# Altium schematic symbol library Resistor.SchLib: 581 symbols (part 3 of 3)
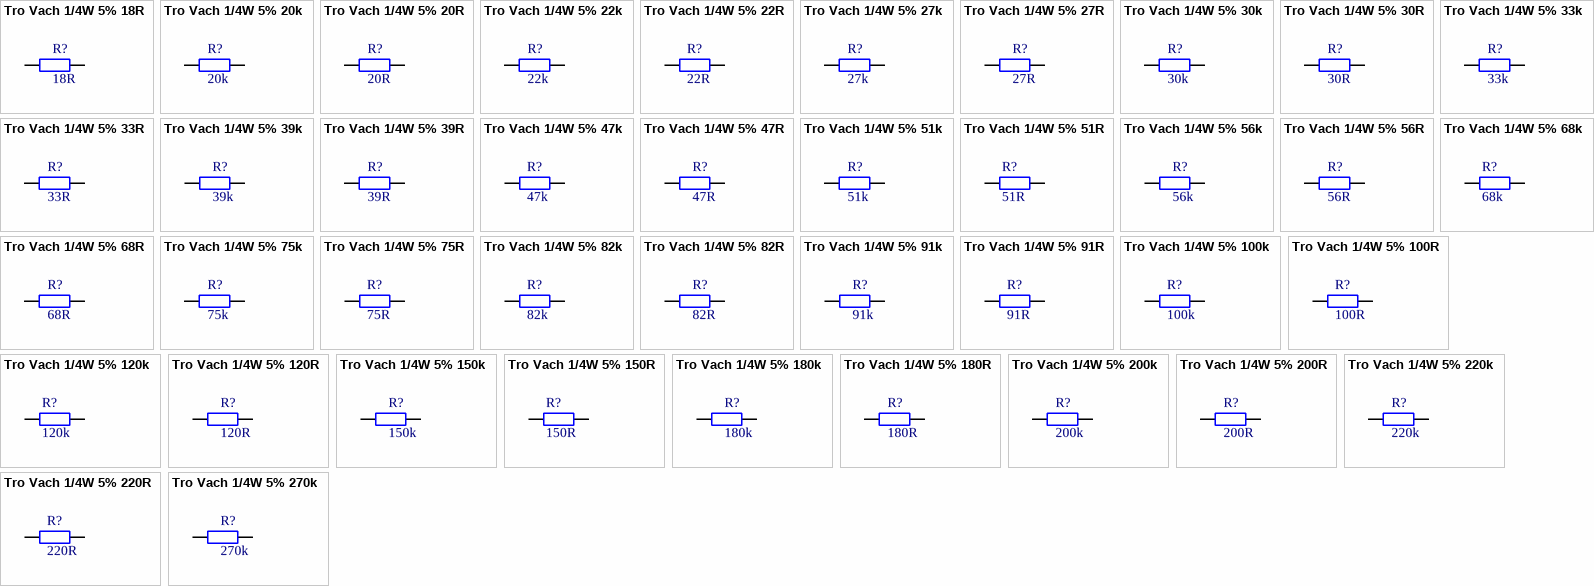
[diagram p16: symbols Tro Vach 1/4W 5% 18R to Tro Vach 1/4W 5% 270k]

## Tro Vach 1/4W 5% 56k
designator R?, comment 56k
Cắm; Don_Vi: Con; So_Chan: 2; Ten_Linh_Kien: Trở Vạch 1/4w 5% 56k; Ma_Hang: MH007329; Chung_Loai: Cắm; Kieu_Chan: *
footprint tro vach 1/4w
pins: 1, 2

## Tro Vach 1/4W 5% 56R
designator R?, comment 56R
Cắm; Don_Vi: Con; So_Chan: 2; Ten_Linh_Kien: Trở Vạch 1/4w 5% 56R; Ma_Hang: MH007404; Chung_Loai: Cắm; Kieu_Chan: *
footprint tro vach 1/4w
pins: 1, 2

## Tro Vach 1/4W 5% 68k
designator R?, comment 68k
Cắm; Don_Vi: Con; So_Chan: 2; Ten_Linh_Kien: Trở Vạch 1/4w 5% 68k; Ma_Hang: MH007332; Kieu_Chan: *; Chung_Loai: Cắm
footprint tro vach 1/4w
pins: 1, 2

## Tro Vach 1/4W 5% 68R
designator R?, comment 68R
Căm; Chung_Loai: Cắm; Don_Vi: Con; So_Chan: 2; Ten_Linh_Kien: Trở Vạch 1/4w 5% 68R; Ma_Hang: MH007333; Kieu_Chan: *
footprint tro vach 1/4w
pins: 1, 2

## Tro Vach 1/4W 5% 75k
designator R?, comment 75k
Cắm; Don_Vi: Con; So_Chan: 2; Ten_Linh_Kien: Trở Vạch 1/4W 5% 75k; Ma_Hang: MH008788; Chung_Loai: Cắm; Kieu_Chan: *
footprint tro vach 1/4w
pins: 1, 2

## Tro Vach 1/4W 5% 75R
designator R?, comment 75R
Cắm; Don_Vi: Con; So_Chan: 2; Ten_Linh_Kien: Trở Vạch 1/4w 5% 75R; Ma_Hang: MH007339; Chung_Loai: Cắm; Kieu_Chan: *
footprint tro vach 1/4w
pins: 1, 2

## Tro Vach 1/4W 5% 82k
designator R?, comment 82k
Cắm; Don_Vi: Con; So_Chan: 2; Ten_Linh_Kien: Trở Vạch 1/4w 5% 82k; Ma_Hang: MH007408; Chung_Loai: Cắm; Kieu_Chan: *
footprint tro vach 1/4w
pins: 1, 2

## Tro Vach 1/4W 5% 82R
designator R?, comment 82R
Cắm; Don_Vi: Con; So_Chan: 2; Ten_Linh_Kien: Trở Vạch 1/4w 5% 82R; Ma_Hang: MH007344; Chung_Loai: Cắm; Kieu_Chan: *
footprint tro vach 1/4w
pins: 1, 2

## Tro Vach 1/4W 5% 91k
designator R?, comment 91k
Cắm; Don_Vi: Con; So_Chan: 2; Ten_Linh_Kien: Trở Vạch 1/4w 5% 91k; Ma_Hang: MH007346; Chung_Loai: Cắm; Kieu_Chan: *
footprint tro vach 1/4w
pins: 1, 2

## Tro Vach 1/4W 5% 91R
designator R?, comment 91R
Cắm; Ten_Linh_Kien: Trở Vạch 1/4w 5% 91R; Ma_Hang: MH007347; Don_Vi: Con; So_Chan: 2; Chung_Loai: Cắm; Kieu_Chan: *
footprint tro vach 1/4w
pins: 1, 2

## Tro Vach 1/4W 5% 100k
designator R?, comment 100k
Cắm; Don_Vi: Con; So_Chan: 2; Ten_Linh_Kien: Trở Vạch 1/4w 5% 100k; Ma_Hang: MH007352; Chung_Loai: Cắm; Kieu_Chan: *
footprint tro vach 1/4w
pins: 1, 2

## Tro Vach 1/4W 5% 100R
designator R?, comment 100R
Cắm; Don_Vi: Con; So_Chan: 2; Ten_Linh_Kien: Trở Vạch 1/4w 5% 100R; Ma_Hang: MH007353; Chung_Loai: Cắm; Kieu_Chan: *
footprint tro vach 1/4w
pins: 1, 2

## Tro Vach 1/4W 5% 120k
designator R?, comment 120k
Cắm; Don_Vi: Con; So_Chan: 2; Ten_Linh_Kien: Trở Vạch 1/4w 5% 120k; Ma_Hang: MH007387; Chung_Loai: Cắm; Kieu_Chan: *
footprint tro vach 1/4w
pins: 1, 2

## Tro Vach 1/4W 5% 120R
designator R?, comment 120R
Cắm; Don_Vi: Con; So_Chan: 2; Ten_Linh_Kien: Trở Vạch 1/4W 5% 120R; Ma_Hang: MH007388; Chung_Loai: Cắm; Kieu_Chan: *
footprint tro vach 1/4w
pins: 1, 2

## Tro Vach 1/4W 5% 150k
designator R?, comment 150k
Cắm; Don_Vi: Con; So_Chan: 2; Ten_Linh_Kien: Trở Vạch 1/4w 5% 150k; Ma_Hang: MH007286; Chung_Loai: Cắm; Kieu_Chan: *
footprint Tro vach 1/4w
pins: 1, 2

## Tro Vach 1/4W 5% 150R
designator R?, comment 150R
Cắm; Don_Vi: Con; So_Chan: 2; Ten_Linh_Kien: Trở Vạch 1/4w 5% 150R; Ma_Hang: MH007287; Chung_Loai: Cắm; Kieu_Chan: *
footprint tro vach 1/4w
pins: 1, 2

## Tro Vach 1/4W 5% 180k
designator R?, comment 180k
Cắm; Don_Vi: Con; So_Chan: 2; Ten_Linh_Kien: Trở Vạch 1/4w 5% 180k; Ma_Hang: MH007289; Chung_Loai: Cắm; Kieu_Chan: *
footprint tro vach 1/4w
pins: 1, 2

## Tro Vach 1/4W 5% 180R
designator R?, comment 180R
Cắm; Don_Vi: Con; Ten_Linh_Kien: Trở Vạch 1/4w 5% 180R; Ma_Hang: MH007290; So_Chan: 2; Chung_Loai: Cắm; Kieu_Chan: *
footprint tro vach 1/4w
pins: 1, 2

## Tro Vach 1/4W 5% 200k
designator R?, comment 200k
Cắm; Don_Vi: Con; So_Chan: 2; Ten_Linh_Kien: Trở Vạch 1/4w 5% 200k; Ma_Hang: MH007295; Chung_Loai: Cắm; Kieu_Chan: *
footprint tro vach 1/4w
pins: 1, 2

## Tro Vach 1/4W 5% 200R
designator R?, comment 200R
Cắm; Don_Vi: Con; So_Chan: 2; Ten_Linh_Kien: Trở Vạch 1/4w 5% 200R; Ma_Hang: MH007296; Chung_Loai: Cắm; Kieu_Chan: *
footprint tro vach 1/4w
pins: 1, 2

## Tro Vach 1/4W 5% 220k
designator R?, comment 220k
Cắm; Don_Vi: Con; So_Chan: 2; Ma_Hang: MH007299; Ten_Linh_Kien: Trở Vạch 1/4w 5% 220k; Chung_Loai: Cắm; Kieu_Chan: *
footprint tro vach 1/4w
pins: 1, 2

## Tro Vach 1/4W 5% 220R
designator R?, comment 220R
Cắm; Don_Vi: Con; So_Chan: 2; Ten_Linh_Kien: Trở Vạch 1/4w 5% 220R; Ma_Hang: MH007300; Chung_Loai: Cắm; Kieu_Chan: *
footprint tro vach 1/4w
pins: 1, 2

## Tro Vach 1/4W 5% 270k
designator R?, comment 270k
Cắm; Don_Vi: Con; So_Chan: 2; Ten_Linh_Kien: Trở Vạch 1/4w 5% 270K; Ma_Hang: MH007396; Chung_Loai: Cắm; Kieu_Chan: *
footprint tro vach 1/4w
pins: 1, 2

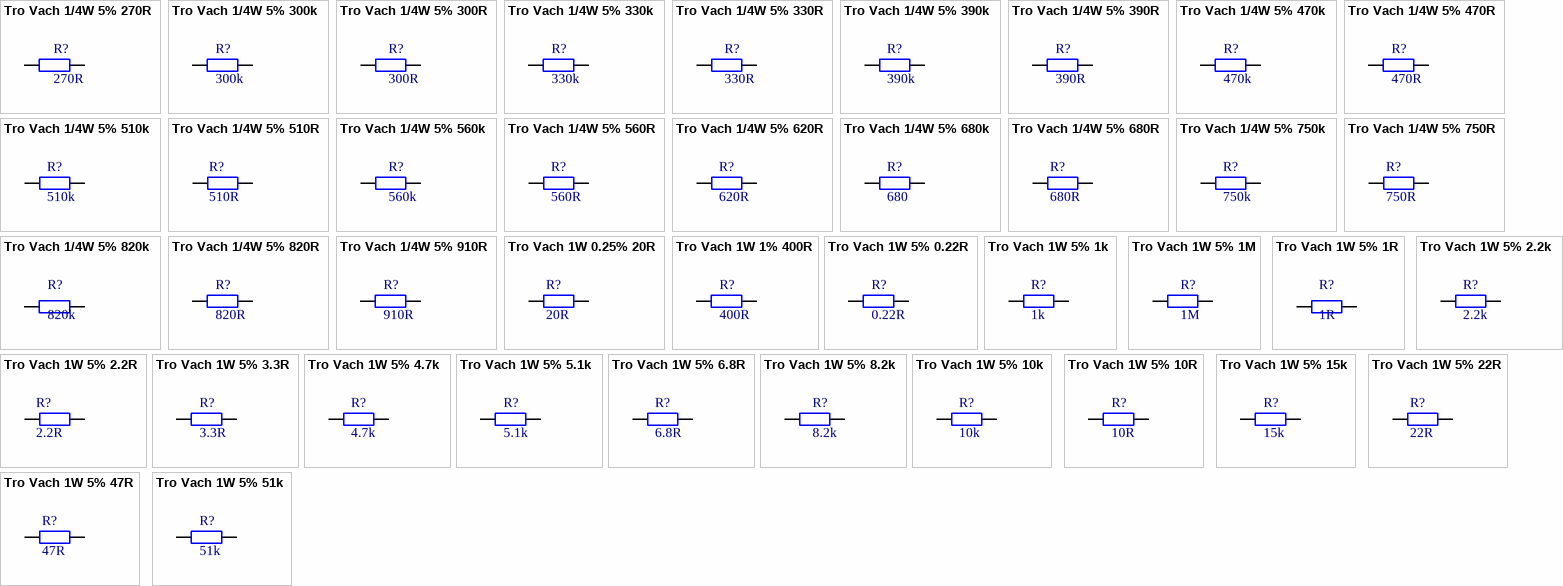
[diagram p12: symbols Tro Vach 1/4W 5% 270R to Tro Vach 1W 5% 51k]

## Tro Vach 1/4W 5% 270R
designator R?, comment 270R
Cắm; So_Chan: 2; Ma_Hang: MH007303; Don_Vi: Con; Ten_Linh_Kien: Trở Vạch 1/4w 5% 270R; Chung_Loai: Cắm; Kieu_Chan: *
footprint tro vach 1/4w
pins: 1, 2

## Tro Vach 1/4W 5% 300k
designator R?, comment 300k
Cắm; Don_Vi: Con; So_Chan: 2; Ten_Linh_Kien: Trở Vạch 1/4w 5% 300k; Ma_Hang: MH007308; Chung_Loai: Cắm; Kieu_Chan: *
footprint tro vach 1/4w
pins: 1, 2

## Tro Vach 1/4W 5% 300R
designator R?, comment 300R
Cắm; So_Chan: 2; Ten_Linh_Kien: Trở Vạch 1/4w 5% 300R; Ma_Hang: MH007309; Don_Vi: Con; Chung_Loai: Cắm; Kieu_Chan: *
footprint tro vach 1/4w
pins: 1, 2

## Tro Vach 1/4W 5% 330k
designator R?, comment 330k
Cắm; Don_Vi: Con; So_Chan: 2; Ten_Linh_Kien: Trở Vạch 1/4w 5% 330k; Ma_Hang: MH007312; Chung_Loai: Cắm; Kieu_Chan: *
footprint tro vach 1/4w
pins: 1, 2

## Tro Vach 1/4W 5% 330R
designator R?, comment 330R
Cắm; Don_Vi: Con; So_Chan: 2; Ten_Linh_Kien: Trở Vạch 1/4W 5% 330R; Ma_Hang: MH007436; Chung_Loai: Cắm; Kieu_Chan: *
footprint tro vach 1/4w
pins: 1, 2

## Tro Vach 1/4W 5% 390k
designator R?, comment 390k
Cắm; Don_Vi: Con; So_Chan: 2; Ten_Linh_Kien: Trở Vạch 1/4w 5% 390k; Ma_Hang: MH007399; Chung_Loai: Cắm; Kieu_Chan: *
footprint tro vach 1/4w
pins: 1, 2

## Tro Vach 1/4W 5% 390R
designator R?, comment 390R
Cắm; Don_Vi: Con; So_Chan: 2; Ten_Linh_Kien: Trở Vạch 1/4W 5% 390R; Ma_Hang: MH007400; Chung_Loai: Cắm; Kieu_Chan: *
footprint tro vach 1/4w
pins: 1, 2

## Tro Vach 1/4W 5% 470k
designator R?, comment 470k
Cắm; Don_Vi: Con; So_Chan: 2; Ten_Linh_Kien: Trở Vạch 1/4w 5% 470k; Ma_Hang: MH007319; Chung_Loai: Cắm; Kieu_Chan: *
footprint tro vach 1/4w
pins: 1, 2

## Tro Vach 1/4W 5% 470R
designator R?, comment 470R
Cắm; Don_Vi: Con; So_Chan: 2; Ten_Linh_Kien: Trở Vạch 1/4w 5% 470R; Ma_Hang: MH007320; Chung_Loai: Cắm; Kieu_Chan: *
footprint tro vach 1/4w
pins: 1, 2

## Tro Vach 1/4W 5% 510k
designator R?, comment 510k
Cắm; So_Chan: 2; Don_Vi: Con; Ten_Linh_Kien: Trở Vạch 1/4w 5% 510k; Ma_Hang: MH007324; Chung_Loai: Cắm; Kieu_Chan: *
footprint tro vach 1/4w
pins: 1, 2

## Tro Vach 1/4W 5% 510R
designator R?, comment 510R
Cắm; So_Chan: 2; Don_Vi: Con; Ten_Linh_Kien: Trở Vạch 1/4w 5% 510R; Ma_Hang: MH007325; Chung_Loai: Cắm; Kieu_Chan: *
footprint tro vach 1/4w
pins: 1, 2

## Tro Vach 1/4W 5% 560k
designator R?, comment 560k
Cắm; Don_Vi: Con; So_Chan: 2; Ten_Linh_Kien: Trở Vạch 1/4w 5% 560K; Ma_Hang: MH007403; Chung_Loai: Cắm; Kieu_Chan: *
footprint tro vach 1/4w
pins: 1, 2

## Tro Vach 1/4W 5% 560R
designator R?, comment 560R
Cắm; Ten_Linh_Kien: Trở Vạch 1/4w 5% 560R; Don_Vi: Con; So_Chan: 2; Ma_Hang: MH007328; Chung_Loai: Cắm; Kieu_Chan: *
footprint tro vach 1/4w
pins: 1, 2

## Tro Vach 1/4W 5% 620R
designator R?, comment 620R
Cắm; Don_Vi: Con; So_Chan: 2; Ten_Linh_Kien: Trở Vạch 1/4W 5% 620R; Ma_Hang: MH007407; Chung_Loai: Cắm; Kieu_Chan: *
footprint tro vach 1/4w
pins: 1, 2

## Tro Vach 1/4W 5% 680k
designator R?, comment 680
Cắm; Don_Vi: Con; So_Chan: 2; Ten_Linh_Kien: Trở Vạch 1/4w 5% 680k; Ma_Hang: MH007330; Chung_Loai: Cắm; Kieu_Chan: *
footprint tro vach 1/4w
pins: 1, 2

## Tro Vach 1/4W 5% 680R
designator R?, comment 680R
Cắm; Don _Vi: Con; So_Chan: 2; Ten_Linh_Kien: Trở Vạch 1/4w 5% 680R; Ma_Hang: MH007331; Chung_Loai: Cắm; Kieu_Chan: *
footprint tro vach 1/4w
pins: 1, 2

## Tro Vach 1/4W 5% 750k
designator R?, comment 750k
Cắm; Don_Vi: Con; Ten_Linh_Kien: Trở Vạch 1/4w 5% 750k; Ma_Hang: MH007336; So_Chan: 2; Chung_Loai: Cắm; Kieu_Chan: *
footprint tro vach 1/4w
pins: 1, 2

## Tro Vach 1/4W 5% 750R
designator R?, comment 750R
Cắm; Don_Vi: Con; Ten_Linh_Kien: Trở Vạch 1/4w 5% 750R; Ma_Hang: MH007337; So_Chan: 2; Chung_Loai: Cắm; Kieu_Chan: *
footprint tro vach 1/4w
pins: 1, 2

## Tro Vach 1/4W 5% 820k
designator R?, comment 820k
Cắm; Don_Vi: Con; So_Chan: 2; Ten_Linh_Kien: Trở Vạch 1/4w 5% 820k; Ma_Hang: MH007342; Chung_Loai: Cắm; Kieu_Chan: *
footprint tro vach 1/4w
pins: 1, 2

## Tro Vach 1/4W 5% 820R
designator R?, comment 820R
Cắm; Don_Vi: Con; So_Chan: 2; Ten_Linh_Kien: Trở Vạch 1/4w 5% 820R; Ma_Hang: MH007343; Chung_Loai: Cắm; Kieu_Chan: *
footprint tro vach 1/4w
pins: 1, 2

## Tro Vach 1/4W 5% 910R
designator R?, comment 910R
Cắm; So_Chan: 2; Don_Vi: Con; Ten_Linh_Kien: Trở Vạch 1/4w 5% 910R; Ma_Hang: MH007345; Chung_Loai: Cắm; Kieu_Chan: *
footprint tro vach 1/4w
pins: 1, 2

## Tro Vach 1W 0.25% 20R
designator R?, comment 20R
Cắm; Don_Vi: Con; So_Chan: 2; Ten_Linh_Kien: Trở 0.25% 1w 20R; Ma_Hang: MH005218; Chung_Loai: Cắm; Kieu_Chan: *
footprint tro vach 1w
pins: 1, 2

## Tro Vach 1W 1% 400R
designator R?, comment 400R
Cắm; So_Chan: 2; Don_Vi: Con; Ten_Linh_Kien: Trở 1% 1w 400R; Ma_Hang: MH005219; Chung_Loai: Cắm; Kieu_Chan: *
footprint tro vach 1w
footprint tro vach 1w
pins: 1, 2

## Tro Vach 1W 5% 0.22R
designator R?, comment 0.22R
Cắm; So_Chan: 2; Don_Vi: Con; Ten_Linh_Kien: Trở 5% 1w 0.22R; Ma_Hang: MH006385; Chung_Loai: Cắm; Kieu_Chan: *
footprint tro vach 1w
pins: 1, 2

## Tro Vach 1W 5% 1k
designator R?, comment 1k
Cắm; Don_Vi: Con; So_Chan: 2; Ten_Linh_Kien: Trở 5% 1w 1k; Ma_Hang: MH006397; Chung_Loai: Cắm; Kieu_Chan: *
footprint tro vach 1w
pins: 1, 2

## Tro Vach 1W 5% 1M
designator R?, comment 1M
Cắm; Don_Vi: Con; So_Chan: 2; Ten_Linh_Kien: Trở 5% 1w 1M; Ma_Hang: MH006398; Chung_Loai: Cắm; Kieu_Chan: *
footprint tro vach 1w
pins: 1, 2

## Tro Vach 1W 5% 1R
designator R?, comment 1R
Cắm; Don_Vi: Con; So_Chan: 2; Ten_Linh_Kien: Trở 5% 1w 1R; Ma_Hang: MH005670; Chung_Loai: Cắm; Kieu_Chan: *
footprint tro vach 1w
pins: 1, 2

## Tro Vach 1W 5% 2.2k
designator R?, comment 2.2k
Cắm; Don_Vi: Con; So_Chan: 2; Ten_Linh_Kien: Trở 5% 1w 2.2k; Ma_Hang: MH008841; Chung_Loai: Cắm; Kieu_Chan: *
footprint tro vach 1w
pins: 1, 2

## Tro Vach 1W 5% 2.2R
designator R?, comment 2.2R
Cắm; Don_Vi: Con; So_Chan: 2; Ten_Linh_Kien: Trở 5% 1w 2.2R; Ma_Hang: MH006399; Chung_Loai: Cắm; Kieu_Chan: *
footprint tro vach 1w
pins: 1, 2

## Tro Vach 1W 5% 3.3R
designator R?, comment 3.3R
Cắm; Don_Vi: Con; So_Chan: 2; Ten_Linh_Kien: Trở 5% 1w 3.3R; Ma_Hang: MH008003; Chung_Loai: Cắm; Kieu_Chan: *
footprint tro vach 1w
pins: 1, 2

## Tro Vach 1W 5% 4.7k
designator R?, comment 4.7k
Cắm; Don_Vi: Con; So_Chan: 2; Ten_Linh_Kien: Trở 5% 1w 4.7k; Ma_Hang: MH006407; Chung_Loai: Cắm; Kieu_Chan: *
footprint tro vach 1w
pins: 1, 2

## Tro Vach 1W 5% 5.1k
designator R?, comment 5.1k
Cắm; Don_Vi: Con; So_Chan: 2; Ten_Linh_Kien: Trở 5% 1w 5.1k; Ma_Hang: MH006408; Chung_Loai: Cắm; Kieu_Chan: *
footprint tro vach 1w
pins: 1, 2

## Tro Vach 1W 5% 6.8R
designator R?, comment 6.8R
Cắm; Don_Vi: Con; So_Chan: 2; Ten_Linh_Kien: Trở 5% 1w 6.8R; Ma_Hang: MH006410; Chung_Loai: Cắm; Kieu_Chan: *
footprint tro vach 1w
pins: 1, 2

## Tro Vach 1W 5% 8.2k
designator R?, comment 8.2k
Cắm; Don_Vi: Con; So_Chan: 2; Ten_Linh_Kien: Trở 5% 1w 8.2k; Ma_Hang: MH006411; Chung_Loai: Cắm; Kieu_Chan: *
footprint tro vach 1w
pins: 1, 2

## Tro Vach 1W 5% 10k
designator R?, comment 10k
Cắm; Don_Vi: Con; So_Chan: 2; Ten_Linh_Kien: Trở 5% 1w 10k; Ma_Hang: MH006391; Chung_Loai: Cắm; Kieu_Chan: *
footprint tro vach 1w
pins: 1, 2

## Tro Vach 1W 5% 10R
designator R?, comment 10R
Cắm; Don_Vi: Con; So_Chan: 2; Ten_Linh_Kien: Trở 5% 1w 10R; Ma_Hang: MH006392; Chung_Loai: Cắm; Kieu_Chan: *
footprint tro vach 1w
pins: 1, 2

## Tro Vach 1W 5% 15k
designator R?, comment 15k
Cắm; Don_Vi: Con; So_Chan: 2; Ten_Linh_Kien: Trở 5% 1w 15k; Ma_Hang: MH006396; Chung_Loai: Cắm; Kieu_Chan: *
footprint tro vach 1w
pins: 1, 2

## Tro Vach 1W 5% 22R
designator R?, comment 22R
Cắm; Don_Vi: Con; So_Chan: 2; Ten_Linh_Kien: Trở 5% 1w 22R; Ma_Hang: MH006386; Chung_Loai: Cắm; Kieu_Chan: *
footprint tro vach 1w
pins: 1, 2

## Tro Vach 1W 5% 47R
designator R?, comment 47R
Cắm; So_Chan: 2; Don_Vi: Con; Ten_Linh_Kien: Trở 5% 1w 47R; Ma_Hang: MH009029; Chung_Loai: Cắm; Kieu_Chan: *
footprint tro vach 1w
pins: 1, 2

## Tro Vach 1W 5% 51k
designator R?, comment 51k
Cắm; Don_Vi: Con; So_Chan: 2; Ten_Linh_Kien: Trở 5% 1w 51k; Ma_Hang: MH006717; Chung_Loai: Cắm; Kieu_Chan: *
footprint tro vach 1w
pins: 1, 2

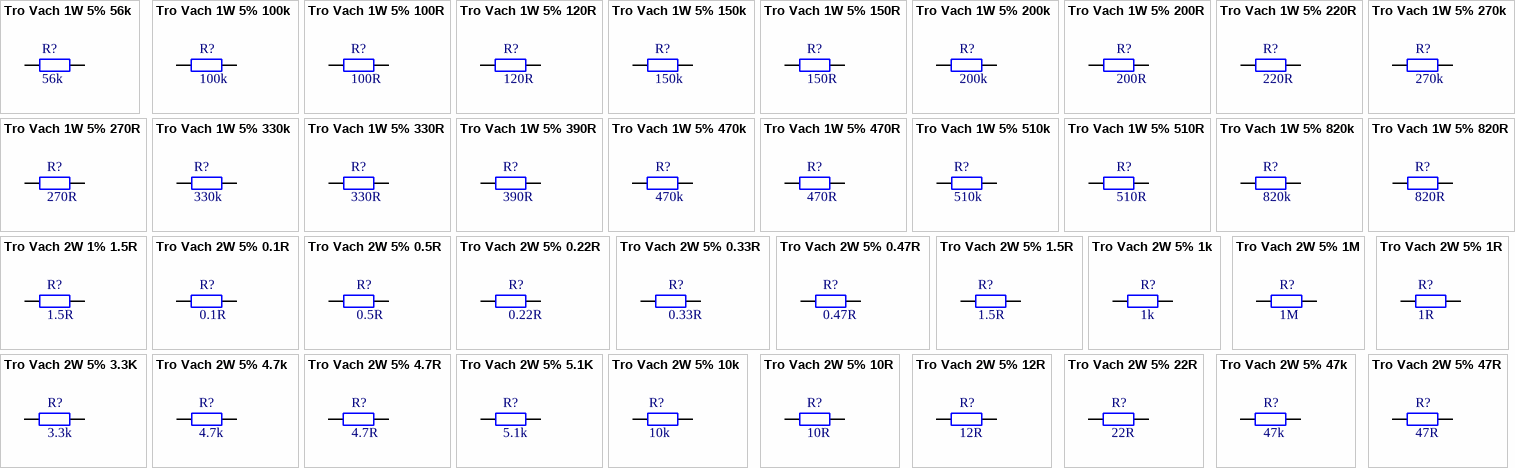
[diagram p13: symbols Tro Vach 1W 5% 56k to Tro Vach 2W 5% 47R]

## Tro Vach 1W 5% 56k
designator R?, comment 56k
Cắm; Don_Vi: Con; So_Chan: 2; Ten_Linh_Kien: Trở 5% 1w 56k; Ma_Hang: MH006409; Chung_Loai: Cắm; Kieu_Chan: *
footprint tro vach 1w
pins: 1, 2

## Tro Vach 1W 5% 100k
designator R?, comment 100k
Cắm; Don_Vi: Con; So_Chan: 2; Ten_Linh_Kien: Trở 5% 1w 100k; Ma_Hang: MH006389; Chung_Loai: Cắm; Kieu_Chan: *
footprint tro vach 1w
pins: 1, 2

## Tro Vach 1W 5% 100R
designator R?, comment 100R
Cắm; Don_Vi: Con; So_Chan: 2; Ten_Linh_Kien: Trở 5% 1w 100R; Ma_Hang: MH006390; Chung_Loai: Cắm; Kieu_Chan: *
footprint tro vach 1w
pins: 1, 2

## Tro Vach 1W 5% 120R
designator R?, comment 120R
Cắm; So_Chan: 2; Ten_Linh_Kien: Trở 5% 1w 120R; Don_Vi: Con; Ma_Hang: MH006393; Chung_Loai: Cắm; Kieu_Chan: *
footprint tro vach 1w
pins: 1, 2

## Tro Vach 1W 5% 150k
designator R?, comment 150k
Cắm; So_Chan: 2; Ma_Hang: MH006394; Ten_Linh_Kien: Trở 5% 1w 150k; Don_Vi: Con; Chung_Loai: Cắm; Kieu_Chan: *
footprint tro vach 1w
pins: 1, 2

## Tro Vach 1W 5% 150R
designator R?, comment 150R
Cắm; Don_Vi: Con; So_Chan: 2; Ten_Linh_Kien: Trở 5% 1w 150R; Ma_Hang: MH006395; Chung_Loai: Cắm; Kieu_Chan: *
footprint tro vach 1w
pins: 1, 2

## Tro Vach 1W 5% 200k
designator R?, comment 200k
Cắm; So_Chan: 2; Ten_Linh_Kien: Trở 5% 1w 200k; Ma_Hang: MH006400; Don_Vi: Con; Chung_Loai: Cắm; Kieu_Chan: *
footprint tro vach 1w
pins: 1, 2

## Tro Vach 1W 5% 200R
designator R?, comment 200R
Cắm; Don_Vi: Con; So_Chan: 2; Ten_Linh_Kien: Trở 5% 1w 200R; Ma_Hang: MH006401; Chung_Loai: Cắm; Kieu_Chan: *
footprint tro vach 1w
pins: 1, 2

## Tro Vach 1W 5% 220R
designator R?, comment 220R
Cắm; Don_Vi: Con; So_Chan: 2; Ten_Linh_Kien: Trở 5% 1w 220R; Ma_Hang: MH006414; Chung_Loai: Cắm; Kieu_Chan: *
footprint tro vach 1w
pins: 1, 2

## Tro Vach 1W 5% 270k
designator R?, comment 270k
Cắm; So_Chan: 2; Don_Vi: Con; Ten_Linh_Kien: Trở 5% 1w 270K; Ma_Hang: MH006402; Chung_Loai: Cắm; Kieu_Chan: *
footprint tro vach 1w
pins: 1, 2

## Tro Vach 1W 5% 270R
designator R?, comment 270R
Cắm; Don_Vi: Con; So_Chan: 2; Ten_Linh_Kien: Trở 5% 1w 270R; Ma_Hang: MH006403; Chung_Loai: Cắm; Kieu_Chan: *
footprint tro vach 1w
pins: 1, 2

## Tro Vach 1W 5% 330k
designator R?, comment 330k
Cắm; Don_Vi: Con; So_Chan: 2; Ten_Linh_Kien: Trở 5% 1w 330k; Ma_Hang: MH006404; Chung_Loai: Cắm; Kieu_Chan: *
footprint tro vach 1w
pins: 1, 2

## Tro Vach 1W 5% 330R
designator R?, comment 330R
Cắm; Don_Vi: Con; So_Chan: 2; Ten_Linh_Kien: Trở 5% 1w 330R; Ma_Hang: MH006405; Chung_Loai: Cắm; Kieu_Chan: *
footprint tro vach 1w
pins: 1, 2

## Tro Vach 1W 5% 390R
designator R?, comment 390R
Cắm; Don_Vi: Con; So_Chan: 2; Ten_Linh_Kien: Trở 5% 1w 390R; Ma_Hang: MH006406; Chung_Loai: Cắm; Kieu_Chan: *
footprint tro vach 1w
pins: 1, 2

## Tro Vach 1W 5% 470k
designator R?, comment 470k
Cắm; Don_Vi: Con; So_Chan: 2; Ten_Linh_Kien: Trở 5% 1w 470k; Ma_Hang: MH009030; Chung_Loai: Cắm; Kieu_Chan: *
footprint tro vach 1w
pins: 1, 2

## Tro Vach 1W 5% 470R
designator R?, comment 470R
Cắm; Don_Vi: Con; So_Chan: 2; Ten_Linh_Kien: Trở 5% 1w 470R; Ma_Hang: MH006387; Chung_Loai: Cắm; Kieu_Chan: *
footprint tro vach 1w
pins: 1, 2

## Tro Vach 1W 5% 510k
designator R?, comment 510k
Cắm; Don_Vi: Con; So_Chan: 2; Ten_Linh_Kien: Trở 5% 1w 510k; Ma_Hang: MH008598; Kieu_Chan: *; Chung_Loai: Cắm
footprint tro vach 1w
pins: 1, 2

## Tro Vach 1W 5% 510R
designator R?, comment 510R
Cắm; So_Chan: 2; Don_Vi: Con; Ten_Linh_Kien: Trở 5% 1w 510R; Ma_Hang: MH008603; Chung_Loai: Cắm; Kieu_Chan: *
footprint tro vach 1w
pins: 1, 2

## Tro Vach 1W 5% 820k
designator R?, comment 820k
Cắm; Don_Vi: Con; So_Chan: 2; Ten_Linh_Kien: Trở 5% 1W 820k; Ma_Hang: MH006412; Kieu_Chan: *; Chung_Loai: Cắm
footprint tro vach 1w
pins: 1, 2

## Tro Vach 1W 5% 820R
designator R?, comment 820R
Cắm; Don_Vi: Con; So_Chan: 2; Ten_Linh_Kien: Trở 5% 1w 820R; Ma_Hang: MH006413; Kieu_Chan: *; Chung_Loai: Cắm
footprint tro vach 1w
pins: 1, 2

## Tro Vach 2W 1% 1.5R
designator R?, comment 1.5R
Cắm; So_Chan: 2; Ten_Linh_Kien: Trở 1% 2w 1.5R; Don_Vi: Con; Ma_Hang: MH006312; Chung_Loai: Cắm; Kieu_Chan: *
footprint tro vach 2w
pins: 1, 2

## Tro Vach 2W 5% 0.1R
designator R?, comment 0.1R
Cắm; Don_Vi: Con; So_Chan: 2; Ten_Linh_Kien: Trở 5% 2w 0.1R; Ma_Hang: MH006178; Chung_Loai: Cắm; Kieu_Chan: *
footprint tro vach 2w
pins: 1, 2

## Tro Vach 2W 5% 0.5R
designator R?, comment 0.5R
Cắm; Don_Vi: Con; So_Chan: 2; Ten_Linh_Kien: Trở 5% 2w 0.5R; Ma_Hang: MH007664; Chung_Loai: Cắm; Kieu_Chan: *
footprint tro vach 2w
pins: 1, 2

## Tro Vach 2W 5% 0.22R
designator R?, comment 0.22R
Cắm; So_Chan: 2; Don_Vi: Con; Ten_Linh_Kien: Trở 5% 2w 0.22R; Ma_Hang: MH006353; Chung_loai: Cắm; Kieu_Chan: *
footprint tro vach 2w
pins: 1, 2

## Tro Vach 2W 5% 0.33R
designator R?, comment 0.33R
Cắm; Don_Vi: Con; So_Chan: 2; Ten_Linh_Kien: Trở 5% 2w 0.33R; Ma_Hang: MH006354; Chung_Loai: Cắm; Kieu_Chan: *
footprint tro vach 2w
pins: 1, 2

## Tro Vach 2W 5% 0.47R
designator R?, comment 0.47R
Cắm; So_Chan: 2; Don_Vi: Con; Ten_Linh_Kien: Trở 5% 2w 0.47R; Ma_Hang: MH006351; Chung_Loai: Cắm; Kieu_Chan: *
footprint tro vach 2w
pins: 1, 2

## Tro Vach 2W 5% 1.5R
designator R?, comment 1.5R
Cắm; Don_Vi: Con; So_Chan: 2; Ten_Linh_Kien: Trở 5% 2w 1.5R; Ma_Hang: MH006355; Chung_Loai: Cắm; Kieu_Chan: *
footprint tro vach 2w
pins: 1, 2

## Tro Vach 2W 5% 1k
designator R?, comment 1k
Cắm; Don_Vi: Con; So_Chan: 2; Ten_Linh_Kien: Trở 5% 2w 1k; Ma_Hang: MH006364; Chung_Loai: Cắm; Kieu_Chan: *
footprint tro vach 2w
pins: 1, 2

## Tro Vach 2W 5% 1M
designator R?, comment 1M
Cắm; Don_Vi: Con; So_Chan: 2; Ten_Linh_Kien: Trở 5% 2w 1M; Ma_Hang: MH006365; Chung_Loai: Cắm; Kieu_Chan: *
footprint tro vach 2w
pins: 1, 2

## Tro Vach 2W 5% 1R
designator R?, comment 1R
Cắm; Don_Vi: Con; So_Chan: 2; Ten_Linh_Kien: Trở 5% 2w 1R; Ma_Hang: MH006366; Chung_Loai: Cắm; Kieu_Chan: *
footprint tro vach 2w
pins: 1, 2

## Tro Vach 2W 5% 3.3K
designator R?, comment 3.3k
Cắm; Don_Vi: Con; So_Chan: 2; Ten_Linh_Kien: Trở 5% 2w 3.3k; Ma_Hang: MH008842; Chung_Loai: Cắm; Kieu_Chan: *
footprint tro vach 2w
pins: 1, 2

## Tro Vach 2W 5% 4.7k
designator R?, comment 4.7k
Cắm; Don_Vi: Con; So_Chan: 2; Ten_Linh_Kien: Trở 5% 2w 4.7k; Ma_Hang: MH006374; Chung_Loai: Cắm; Kieu_Chan: *
footprint tro vach 2w
pins: 1, 2

## Tro Vach 2W 5% 4.7R
designator R?, comment 4.7R
Cắm; Don_Vi: Con; So_Chan: 2; Ten_Linh_Kien: Trở 5% 2w 4.7R; Ma_Hang: MH006375; Chung_Loai: Cắm; Kieu_Chan: *
footprint tro vach 2w
pins: 1, 2

## Tro Vach 2W 5% 5.1K
designator R?, comment 5.1k
Cắm; Don_Vi: Con; So_Chan: 2; Ten_Linh_Kien: Trở 5% 2w 5.1k; Ma_Hang: MH008843; Chung_Loai: Cắm; Kieu_Chan: *
footprint tro vach 2w
pins: 1, 2

## Tro Vach 2W 5% 10k
designator R?, comment 10k
Cắm; Don_Vi: Con; So_Chan: 2; Ten_Linh_Kien: Trở 5% 2w 10k; Ma_Hang: MH006358; Chung_Loai: Cắm; Kieu_Chan: *
footprint tro vach 2w
pins: 1, 2

## Tro Vach 2W 5% 10R
designator R?, comment 10R
Cắm; Don_Vi: Con; So_Chan: 2; Ten_Linh_Kien: Trở 5% 2w 10R; Ma_Hang: MH006359; Chung_Loai: Cắm; Kieu_Chan: *
footprint tro vach 2w
pins: 1, 2

## Tro Vach 2W 5% 12R
designator R?, comment 12R
Cắm; Don_Vi: Con; So_Chan: 2; Ten_Linh_Kien: Trở 5% 2w 12R; Ma_Hang: MH006362; Chung_Loai: Cắm; Kieu_Chan: *
footprint tro vach 2w
pins: 1, 2

## Tro Vach 2W 5% 22R
designator R?, comment 22R
Cắm; Don_Vi: Con; So_Chan: 2; Ten_Linh_Kien: Trở 5% 2w 22R; Ma_Hang: MH006369; Chung_Loai: Cắm; Kieu_Chan: *
footprint tro vach 2w
pins: 1, 2

## Tro Vach 2W 5% 47k
designator R?, comment 47k
Cắm; Don_Vi: Con; So_Chan: 2; Ten_Linh_Kien: Trở 5% 2w 47k; Ma_Hang: MH006378; Chung_Loai: Cắm; Kieu_Chan: *
footprint tro vach 2w
pins: 1, 2

## Tro Vach 2W 5% 47R
designator R?, comment 47R
Cắm; Don_Vi: Con; So_Chan: 2; Ten_Linh_Kien: Trở 5% 2w 47R; Ma_Hang: MH006384; Chung_Loai: Cắm; Kieu_Chan: *
footprint tro vach 2w
pins: 1, 2

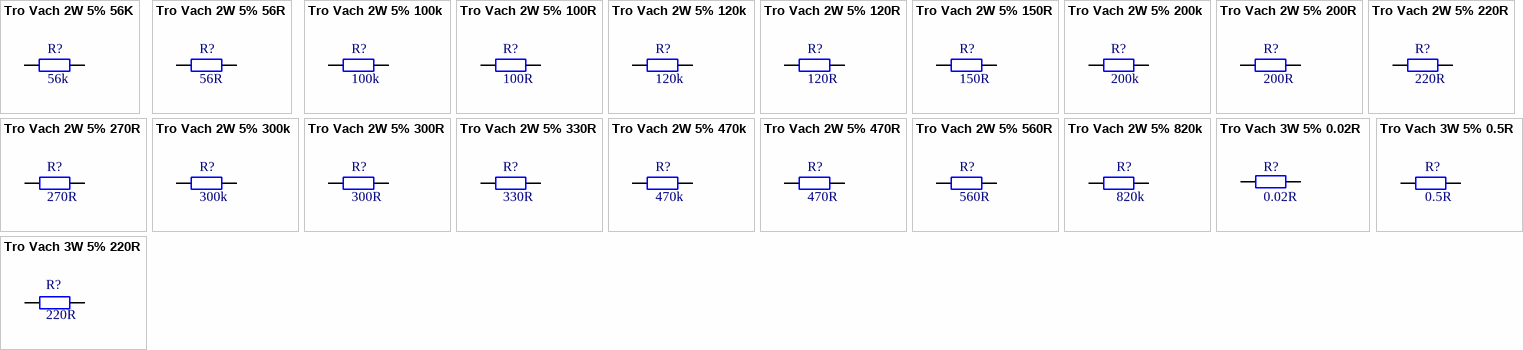
[diagram p14: symbols Tro Vach 2W 5% 56K to Tro Vach 3W 5% 220R]

## Tro Vach 2W 5% 56K
designator R?, comment 56k
Cắm; So_Chan: 2; Ten_Linh_Kien: Trở 5% 2w 56k; Ma_Hang: MH006352; Don_Vi: Con; Chung_Loai: Cắm; Kieu_Chan: *
footprint tro vach 2w
pins: 1, 2

## Tro Vach 2W 5% 56R
designator R?, comment 56R
Cắm; Don_Vi: Con; So_Chan: 2; Ten_Linh_Kien: Trở 5% 2w 56R; Ma_Hang: MH006382; Chung_Loai: Cắm; Kieu_Chan: *
footprint tro vach 2w
pins: 1, 2

## Tro Vach 2W 5% 100k
designator R?, comment 100k
Cắm; Don_Vi: Con; So_Chan: 2; Ten_Linh_Kien: Trở 5% 2w 100k; Ma_Hang: MH006356; Chung_Loai: Cắm; Kieu_Chan: *
footprint tro vach 2w
pins: 1, 2

## Tro Vach 2W 5% 100R
designator R?, comment 100R
Cắm; Don_Vi: Con; So_Chan: 2; Ten_Linh_Kien: Trở 5% 2w 100R; Ma_Hang: MH006357; Chung_Loai: Cắm; Kieu_Chan: *
footprint tro vach 2w
pins: 1, 2

## Tro Vach 2W 5% 120k
designator R?, comment 120k
Cắm; Don_Vi: Con; So_Chan: 2; Ten_Linh_Kien: Trở 5% 2w 120k; Ma_Hang: MH006360; Chung_Loai: Cắm; Kieu_Chan: *
footprint tro vach 2w
pins: 1, 2

## Tro Vach 2W 5% 120R
designator R?, comment 120R
Cắm; Don_Vi: Con; So_Chan: 2; Ten_Linh_Kien: Trở 5% 2w 120R; Ma_Hang: MH006361; Chung_Loai: Cắm; Kieu_Chan: *
footprint tro vach 2w
pins: 1, 2

## Tro Vach 2W 5% 150R
designator R?, comment 150R
Cắm; Don_Vi: Con; So_Chan: 2; Ten_Linh_Kien: Trở 5% 2w 150R; Ma_Hang: MH006363; Chung_Loai: Cắm; Kieu_Chan: *
footprint tro vach 2w
pins: 1, 2

## Tro Vach 2W 5% 200k
designator R?, comment 200k
Cắm; Don_Vi: Con; So_Chan: 2; Ten_Linh_Kien: Trở 5% 2w 200k; Ma_Hang: MH006367; Chung_Loai: Cắm; Kieu_Chan: *
footprint tro vach 2w
pins: 1, 2

## Tro Vach 2W 5% 200R
designator R?, comment 200R
Cắm; Don_Vi: Con; So_Chan: 2; Ten_Linh_Kien: Trở 5% 2w 200R; Ma_Hang: MH006368; Chung_Loai: Cắm; Kieu_Chan: *
footprint tro vach 2w
pins: 1, 2

## Tro Vach 2W 5% 220R
designator R?, comment 220R
Cắm; So_Chan: 2; Don_Vi: Con; Ten_Linh_Kien: Trở 5% 2w 220R; Ma_Hang: MH006383; Chung_Loai: Cắm; Kieu_Chan: *
footprint tro vach 2w
pins: 1, 2

## Tro Vach 2W 5% 270R
designator R?, comment 270R
Cắm; Don_Vi: Con; So_Chan: 2; Ten_Linh_Kien: Trở 5% 2w 270R; Ma_Hang: MH006370; Chung_Loai: Cắm; Kieu_Chan: *
footprint tro vach 2w
pins: 1, 2

## Tro Vach 2W 5% 300k
designator R?, comment 300k
Cắm; Don_Vi: Con; So_Chan: 2; Ten_Linh_Kien: Trở 5% 2w 300k; Ma_Hang: MH006371; Chung_Loai: Cắm; Kieu_Chan: *
footprint tro vach 2w
pins: 1, 2

## Tro Vach 2W 5% 300R
designator R?, comment 300R
Cắm; Don_Vi: Con; So_Chan: 2; Ten_Linh_Kien: Trở 5% 2w 300R; Ma_Hang: MH006372; Chung_Loai: Cắm; Kieu_Chan: *
footprint tro vach 2w
pins: 1, 2

## Tro Vach 2W 5% 330R
designator R?, comment 330R
Cắm; Ma_Hang: MH006373; Don_Vi: Con; So_Chan: 2; Ten_Linh_Kien: Trở 5% 2w 330R; Chung_Loai: Cắm; Kieu_Chan: *
footprint tro vach 2w
pins: 1, 2

## Tro Vach 2W 5% 470k
designator R?, comment 470k
Cắm; Don_Vi: Con; So_Chan: 2; Ten_Linh_Kien: Trở 5% 2w 470k; Ma_Hang: MH006376; Chung_Loai: Cắm; Kieu_Chan: *
footprint tro vach 2w
pins: 1, 2

## Tro Vach 2W 5% 470R
designator R?, comment 470R
Cắm; So_Chan: 2; Don_Vi: Con; Ten_Linh_Kien: Trở 5% 2w 470R; Ma_Hang: MH006377; Chung_Loai: Cắm; Kieu_Chan: *
footprint tro vach 2w
pins: 1, 2

## Tro Vach 2W 5% 560R
designator R?, comment 560R
Cắm; Don_Vi: Con; So_Chan: 2; Ten_Linh_Kien: Trở 5% 2w 560R; Ma_Hang: MH006379; Chung_Loai: Cắm; Kieu_Chan: *
footprint tro vach 2w
pins: 1, 2

## Tro Vach 2W 5% 820k
designator R?, comment 820k
Cắm; So_Chan: 2; Ten_Linh_Kien: Trở 5% 2w 820k; Don_Vi: Con; Ma_Hang: MH006380; Chung_Loai: Cắm; Kieu_Chan: *
footprint tro vach 2w
pins: 1, 2

## Tro Vach 3W 5% 0.02R
designator R?, comment 0.02R
Cắm; Don_Vi: Con; So_Chan: 2; Ten_Linh_Kien: Trở 5% 3w 0.02R; Ma_Hang: MH007953; Chung_Loai: Cắm; Kieu_Chan: *
footprint tro vach 3w
pins: 1, 2

## Tro Vach 3W 5% 0.5R
designator R?, comment 0.5R
Cắm; Don_Vi: Con; So_Chan: 2; Ten_Linh_Kien: Trở 5% 3w 0.5R; Ma_Hang: MH007954; Chung_Loai: Cắm; Kieu_Chan: *
footprint tro vach 3w
pins: 1, 2

## Tro Vach 3W 5% 220R
designator R?, comment 220R
Cắm; Don_Vi: Con; So_Chan: 2; Ten_Linh_Kien: Trở 5% 3w 220R; Ma_Hang: MH004658; Chung_Loai: Cắm; Kieu_Chan: *
footprint tro vach 3w
pins: 1, 2